# Altium footprint library DIOM8059X256N.PcbLib: 1 footprints
Each footprint in its own frame and in the unit in brackets; x right, y up, seen from the top. Pads: shape width x height; smd on the part's side, far side on the other; paste and mask are expansions set on the pad; w line width, h text height; cw(c..) or ccw(c..) is an arc to the next point about the centre after c.
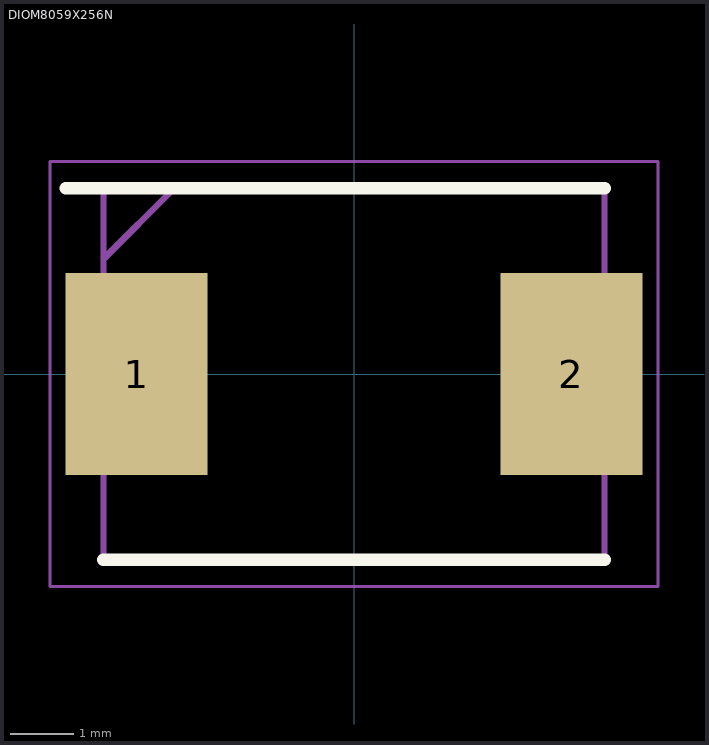
[diagram p0: the footprint, top view; thin cyan lines are the x and y axes]

## DIOM8059X256N [mm]
pads (2):
  rect 2.25x3.2 smd: 1(-3.45,0) 2(3.45,0)
Top Overlay:
  lines w0.2: -4.575,2.95 3.975,2.95 ; -3.975,-2.95 3.975,-2.95
Mechanical 15:
  lines w0.1: -3.975,1.825 -2.85,2.95 ; -3.975,-2.95 3.975,-2.95 3.975,2.95 -3.975,2.95 -3.975,-2.95
Mechanical 20:
  lines w0.05: -4.825,-3.375 4.825,-3.375 4.825,3.375 -4.825,3.375 -4.825,-3.375
3D body "SS34.stp": height 5.8, standoff -4.65, extent -10,-3.376 10,3.376